# EAGLE library part 1-1571983-4 (library Switch_B3U_Update)
SWITCH SLIDE DIP SPST 25MA 24V Manufacturer's datasheet <https://www.te.com/commerce/DocumentDelivery/DDEController?Action=srchrtrv&DocNm=1571983&DocType=Customer+Drawing&DocLang=English>
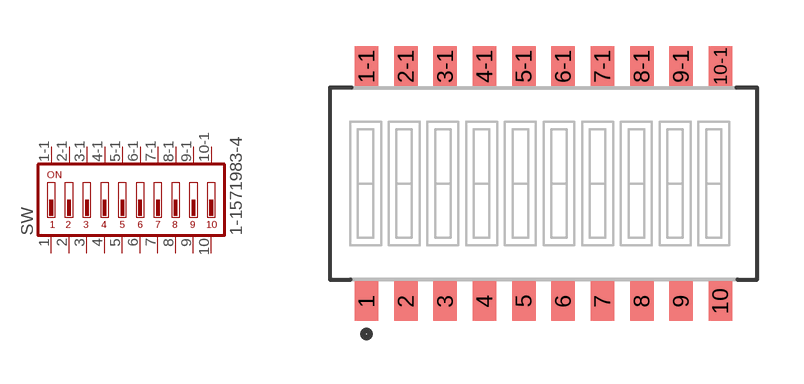
[diagram p6: symbol with the pads of 1-1571983-4; footprint 1-1571983-4]

Designator prefix SW

## 1-1571983-4 (CREATED_BY: PCBLayout.com; DIGIKEY_PARTNO: 450-1951-2-ND; MANUFACTURER: TE Connectivity ALCOSWITCH Switches; MPN: 1-1571983-4)  [1-1571983-4]
1  1  pas
1-1  1-1  pas
2  2  pas
2-1  2-1  pas
3  3  pas
3-1  3-1  pas
4  4  pas
4-1  4-1  pas
5  5  pas
5-1  5-1  pas
6  6  pas
6-1  6-1  pas
7  7  pas
7-1  7-1  pas
8  8  pas
8-1  8-1  pas
9  9  pas
9-1  9-1  pas
10  10  pas
10-1  10-1  pas

## Footprint 1-1571983-4 (pad centres in mm)
smd 0.76 x 1.27: 1 -5.715,-3.795; 1-1 -5.715,3.795; 2 -4.445,-3.795; 2-1 -4.445,3.795; 3 -3.175,-3.795; 3-1 -3.175,3.795; 4 -1.905,-3.795; 4-1 -1.905,3.795; 5 -0.635,-3.795; 5-1 -0.635,3.795; 6 0.635,-3.795; 6-1 0.635,3.795; 7 1.905,-3.795; 7-1 1.905,3.795; 8 3.175,-3.795; 8-1 3.175,3.795; 9 4.445,-3.795; 9-1 4.445,3.795; 10 5.715,-3.795; 10-1 5.715,3.795